# Altium footprint library LM74500QDDFRQ1.PcbLib: 4 footprints
Each footprint in its own frame and in the unit in brackets; x right, y up, seen from the top. Pads: shape width x height; smd on the part's side, far side on the other; paste and mask are expansions set on the pad; w line width, h text height; cw(c..) or ccw(c..) is an arc to the next point about the centre after c.
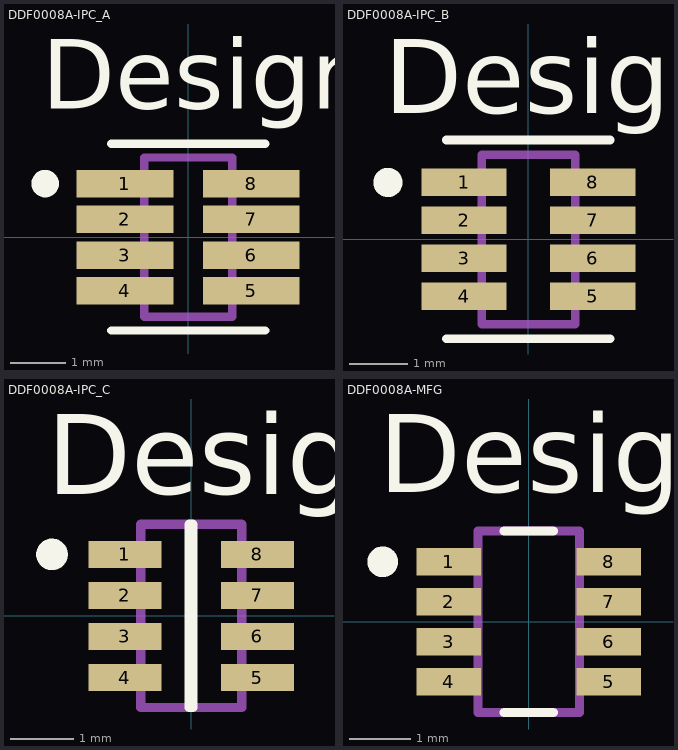
[diagram p0: the footprints below, top view; thin cyan lines are the x and y axes]

## DDF0008A-IPC_A [mm]
pads (8):
  rect 1.757x0.5 smd paste+0 mask+0: 1(-1.151,0.975) 2(-1.151,0.325) 3(-1.151,-0.325) 4(-1.151,-0.975) 5(1.151,-0.975) 6(1.151,-0.325) 7(1.151,0.325) 8(1.151,0.975)
Top Overlay:
  circle w0.25: c-2.604,0.975 r0.125
  lines w0.15: -1.4,-1.7 1.4,-1.7 ; -1.4,1.7 1.4,1.7
  text "Designator9" at -2.667,2.337 h1.27
  text ".Designator" at -3.492,-0.635 h1.27
Mechanical 13:
  lines w0.15: -0.8,-1.45 -0.8,1.45 0.8,1.45 0.8,-1.45 -0.8,-1.45
  text ".Designator" at -3.492,-0.635 h1.27

## DDF0008A-IPC_B [mm]
pads (8):
  rect 1.457x0.472 smd paste+0 mask+0: 1(-1.101,0.975) 2(-1.101,0.325) 3(-1.101,-0.325) 4(-1.101,-0.975) 5(1.101,-0.975) 6(1.101,-0.325) 7(1.101,0.325) 8(1.101,0.975)
Top Overlay:
  circle w0.25: c-2.404,0.975 r0.125
  lines w0.15: -1.4,-1.7 1.4,-1.7 ; -1.4,1.7 1.4,1.7
  text "Designator9" at -2.464,2.159 h1.27
  text ".Designator" at -3.492,-0.635 h1.27
Mechanical 13:
  lines w0.15: -0.8,-1.45 -0.8,1.45 0.8,1.45 0.8,-1.45 -0.8,-1.45
  text ".Designator" at -3.492,-0.635 h1.27

## DDF0008A-IPC_C [mm]
pads (8):
  rect 1.157x0.432 smd paste+0 mask+0: 1(-1.051,0.975) 2(-1.051,0.325) 3(-1.051,-0.325) 4(-1.051,-0.975) 5(1.051,-0.975) 6(1.051,-0.325) 7(1.051,0.325) 8(1.051,0.975)
Top Overlay:
  circle w0.25: c-2.204,0.975 r0.125
  lines w0.15: -0.027,-1.45 0.027,-1.45 0.027,1.45 -0.027,1.45 -0.027,-1.45
  text "Designator9" at -2.286,1.93 h1.27
  text ".Designator" at -3.492,-0.635 h1.27
Mechanical 13:
  lines w0.15: -0.8,-1.45 -0.8,1.45 0.8,1.45 0.8,-1.45 -0.8,-1.45
  text ".Designator" at -3.492,-0.635 h1.27

## DDF0008A-MFG [mm]
pads (8):
  rect 1.05x0.45 smd paste+0 mask+0: 1(-1.3,0.975) 2(-1.3,0.325) 3(-1.3,-0.325) 4(-1.3,-0.975) 5(1.3,-0.975) 6(1.3,-0.325) 7(1.3,0.325) 8(1.3,0.975)
Top Overlay:
  circle w0.25: c-2.375,0.975 r0.125
  lines w0.15: -0.4,-1.475 0.4,-1.475 ; -0.4,1.475 0.4,1.475
  text "Designator9" at -2.438,2.108 h1.27
  text ".Designator" at -3.492,-0.635 h1.27
Mechanical 13:
  lines w0.15: -0.825,-1.475 -0.825,1.475 0.825,1.475 0.825,-1.475 -0.825,-1.475
  text ".Designator" at -3.492,-0.635 h1.27